# EAGLE library part HEADER_26 (library Flipdot)
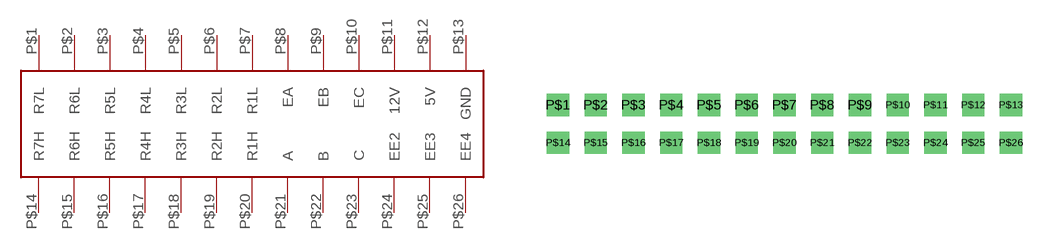
[diagram p5: symbol with the pads of HEADER_26; footprint HEADER_26]

Designator prefix J

## HEADER_26  [HEADER_26]
P$1  R7L
P$2  R6L
P$3  R5L
P$4  R4L
P$5  R3L
P$6  R2L
P$7  R1L
P$8  EA
P$9  EB
P$10  EC
P$11  12V
P$12  5V
P$13  GND
P$14  R7H
P$15  R6H
P$16  R5H
P$17  R4H
P$18  R3H
P$19  R2H
P$20  R1H
P$21  A
P$22  B
P$23  C
P$24  EE2
P$25  EE3
P$26  EE4

## Footprint HEADER_26 (pad centres in mm)
drill 1 square: P$1 -15.24,1.27; P$2 -12.7,1.27; P$3 -10.16,1.27; P$4 -7.62,1.27; P$5 -5.08,1.27; P$6 -2.54,1.27; P$7 0,1.27; P$8 2.54,1.27; P$9 5.08,1.27; P$10 7.62,1.27; P$11 10.16,1.27; P$12 12.7,1.27; P$13 15.24,1.27; P$14 -15.24,-1.27; P$15 -12.7,-1.27; P$16 -10.16,-1.27; P$17 -7.62,-1.27; P$18 -5.08,-1.27; P$19 -2.54,-1.27; P$20 0,-1.27; P$21 2.54,-1.27; P$22 5.08,-1.27; P$23 7.62,-1.27; P$24 10.16,-1.27; P$25 12.7,-1.27; P$26 15.24,-1.27